# Altium footprint library DE11XRA100KJ4BP01F.PcbLib: 1 footprints
Each footprint in its own frame and in the unit in brackets; x right, y up, seen from the top. Pads: shape width x height; smd on the part's side, far side on the other; paste and mask are expansions set on the pad; w line width, h text height; cw(c..) or ccw(c..) is an arc to the next point about the centre after c.
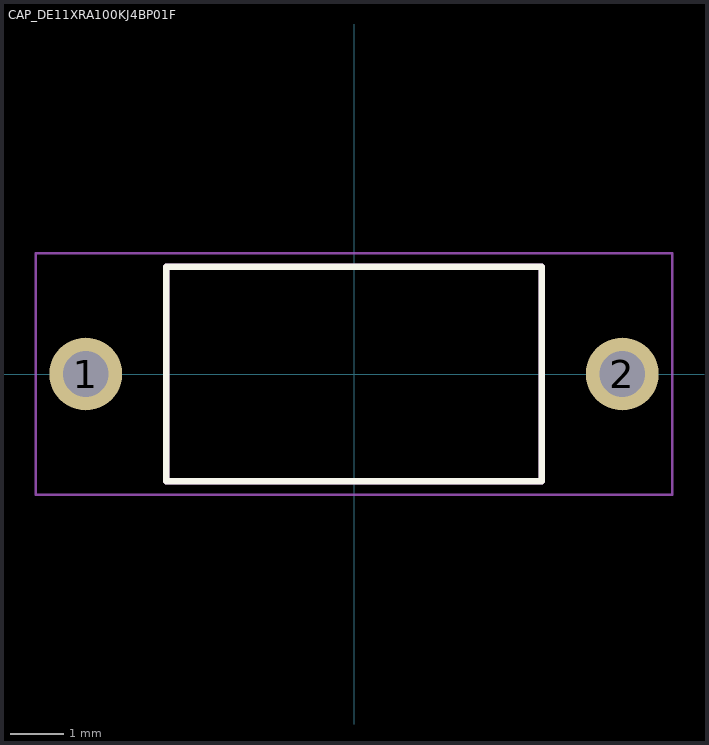
[diagram p0: the footprint, top view; thin cyan lines are the x and y axes]

## CAP_DE11XRA100KJ4BP01F [mm]
pads (2):
  round 1.358 hole 0.85: 1(-5,0) 2(5,0)
Top Overlay:
  lines w0.127: -3.5,-2 3.5,-2 3.5,2 -3.5,2 -3.5,-2
Mechanical 13:
  lines w0.127: -3.5,-2 -3.5,2 3.5,2 3.5,-2 -3.5,-2
Mechanical 15:
  lines w0.05: -5.93,-2.25 -5.93,2.25 5.93,2.25 5.93,-2.25 -5.93,-2.25
3D body "step_temp.STEP": height 10, standoff -4.5, extent -5.332,-2 5.332,2